# EAGLE library part FT232R (library ic-FTDI)
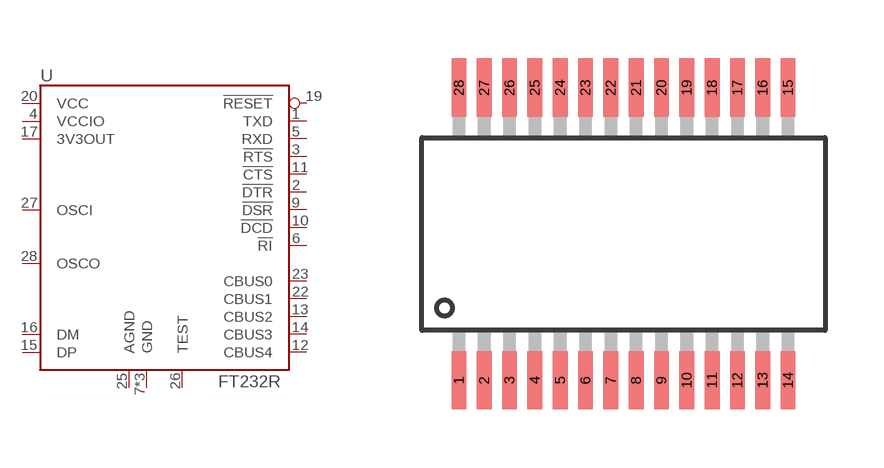
[diagram p2: symbol with the pads of SSOP28; footprint SSOP28]

Designator prefix U

## FT232RL  [SSOP28]
1  TXD
2  !DTR
3  !RTS
4  VCCIO
5  RXD
6  !RI
7  GND
9  !DSR
10  !DCD
11  !CTS
12  CBUS4
13  CBUS2
14  CBUS3
15  DP
16  DM
17  3V3OUT
18  GND
19  !RESET
20  VCC
21  GND
22  CBUS1
23  CBUS0
25  AGND
26  TEST
27  OSCI
28  OSCO

## Footprint SSOP28 (pad centres in mm)
smd 0.381 x 1.5: 1 -4.225,-3.756; 2 -3.575,-3.756; 3 -2.925,-3.756; 4 -2.275,-3.756; 5 -1.625,-3.756; 6 -0.975,-3.756; 7 -0.325,-3.756; 8 0.325,-3.756; 9 0.975,-3.756; 10 1.625,-3.756; 11 2.275,-3.756; 12 2.925,-3.756; 13 3.575,-3.756; 14 4.225,-3.756; 15 4.225,3.756; 16 3.575,3.756; 17 2.925,3.756; 18 2.275,3.756; 19 1.625,3.756; 20 0.975,3.756; 21 0.325,3.756; 22 -0.325,3.756; 23 -0.975,3.756; 24 -1.625,3.756; 25 -2.275,3.756; 26 -2.925,3.756; 27 -3.575,3.756; 28 -4.225,3.756